# Altium footprint library ZYF_Connector.PcbLib: 43 footprints (part 1 of 3)
Each footprint in its own frame and in the unit in brackets; x right, y up, seen from the top. Pads: shape width x height; smd on the part's side, far side on the other; paste and mask are expansions set on the pad; w line width, h text height; cw(c..) or ccw(c..) is an arc to the next point about the centre after c.
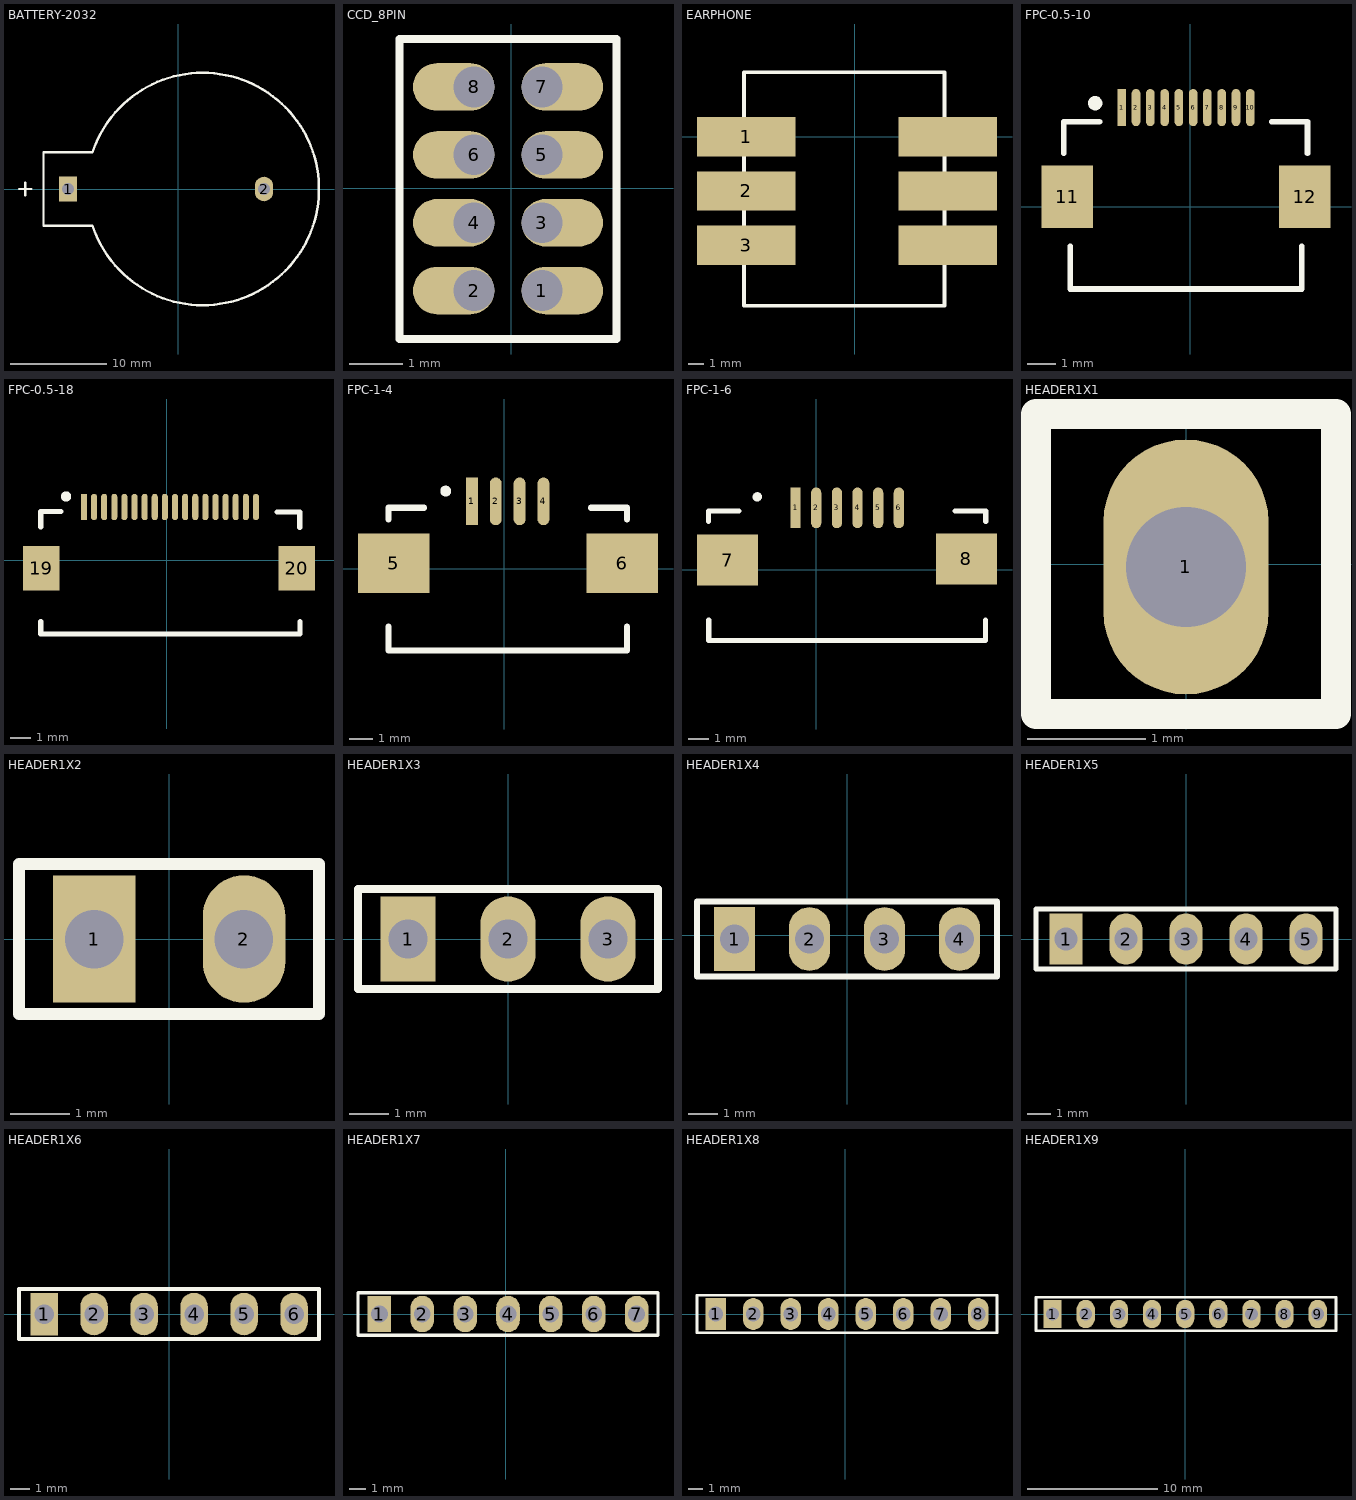
[diagram p0: the footprints below, top view; thin cyan lines are the x and y axes]

## BATTERY-2032 [mil]
pads (2):
  rect 75x100 hole 50: 1(-450,0)
  oval 75x100 hole 50: 2(350,0)
Top Overlay:
  lines w10: -650,0 -600,0 ; -625,-25 -625,25 ; -550,-150 -350,-150 ccw(c100,0) -350,150 -550,150 -550,-150
3D body: height 334.65, standoff -157.48, extent -483.5,-435.07 481.07,431.08

## CCD_8PIN [mil]
pads (8):
  oval 60x35 hole 30 copper offset 15,0: 1(22.45,-75.4) 3(22.45,-25.4) 5(22.45,24.6) 7(22.45,74.6)
  oval 60x35 hole 30 copper offset -15,0: 2(-27.55,-75.4) 4(-27.55,-25.4) 6(-27.55,24.6) 8(-27.55,74.6)
Top Overlay:
  lines w6.06: -82.55,-111.05 60.86,-111.05 77.45,-111.05 77.45,-48.71 77.45,49.61 77.45,109.95 -53.14,109.95 -82.55,109.95 -82.55,-111.05

## EARPHONE [mil]
pads (6):
  rect 250x100 smd: 1(-276,0) 2(-276,-138) 3(-276,-276) ""(237,-276) ""(237,-138) ""(237,0)
Top Overlay:
  lines w10: -281,-429 -281,164 229,164 229,-430 -280,-430 -281,-429
3D body: height 597.09, standoff -187.95, extent -376.27,-847.35 340.27,404.39

## FPC-0.5-10 [mm]
pads (12):
  rect 0.3x1.3 smd: 1(-2.404,3.479)
  oval 0.3x1.3 smd: 2(-1.904,3.479) 3(-1.404,3.479) 4(-0.904,3.479) 5(-0.404,3.479) 6(0.096,3.479) 7(0.596,3.479) 8(1.096,3.479) 9(1.596,3.479) 10(2.096,3.479)
  rect 1.8x2.2 smd: 11(-4.304,0.356) 12(3.996,0.356)
Top Overlay:
  circle w0.25: c-3.332,3.632 r0.125
  lines w0.2: -4.432,1.882 -4.432,2.982 -3.182,2.982 ; -4.204,-1.372 -4.204,-2.872 3.896,-2.872 3.896,-1.372 ; 2.849,2.982 4.099,2.982 4.099,1.882
3D body: height 2.2, standoff -0.05, extent -4.704,-3.025 4.396,3.474

## FPC-0.5-18 [mm]
pads (20):
  rect 0.3x1.3 smd: 1(-4.09,2.623)
  oval 0.3x1.3 smd: 2(-3.59,2.623) 3(-3.09,2.623) 4(-2.59,2.623) 5(-2.09,2.623) 6(-1.59,2.623) 7(-1.09,2.623) 8(-0.59,2.623) 9(-0.09,2.623) 10(0.41,2.623) 11(0.91,2.623) 12(1.41,2.623) 13(1.91,2.623) 14(2.41,2.623) 15(2.91,2.623) 16(3.41,2.623) 17(3.91,2.623) 18(4.41,2.623)
  rect 1.8x2.2 smd: 19(-6.199,-0.414) 20(6.426,-0.406)
Top Overlay:
  circle w0.254: c-4.974,3.144 r0.125
  lines w0.254: -6.224,1.644 -6.224,2.394 -5.224,2.394 ; -6.223,-3.034 -6.223,-3.659 6.579,-3.659 6.579,-3.034 ; 5.451,2.369 6.576,2.369 6.576,1.619
3D body: height 2.2, standoff -0.05, extent -6.374,-3.837 6.726,2.662

## FPC-1-4 [mm]
pads (6):
  rect 0.5x2 smd: 1(-1.365,2.825)
  oval 0.5x2 smd: 2(-0.365,2.825) 3(0.635,2.825) 4(1.635,2.825)
  rect 3x2.5 smd: 5(-4.64,0.227) 6(4.936,0.227)
Top Overlay:
  circle w0.254: c-2.465,3.257 r0.1
  lines w0.254: -4.865,-2.425 -4.865,-3.425 5.135,-3.425 5.135,-2.425 ; -4.865,2.057 -4.865,2.557 -3.365,2.557 ; 3.635,2.557 5.135,2.557 5.135,2.057
3D body: height 2.66, standoff 0.08, extent -5.825,-3.465 6.095,3.085

## FPC-1-6 [mm]
pads (8):
  rect 0.5x2 smd: 1(-1.016,3.048)
  oval 0.5x2 smd: 2(0,3.048) 3(1.016,3.048) 4(2.032,3.048) 5(3.048,3.048) 6(4.064,3.048)
  rect 3x2.5 smd: 7(-4.361,0.481) 8(7.391,0.533)
Top Overlay:
  circle w0.254: c-2.897,3.588 r0.1
  lines w0.254: -5.297,2.388 -5.297,2.888 -3.797,2.888 ; -5.283,-2.476 -5.283,-3.476 8.331,-3.476 8.331,-2.476 ; 6.835,2.888 8.335,2.888 8.335,2.388
3D body: height 2.53, standoff -0.05, extent -5.441,-3.324 8.489,3.226

## HEADER1X1 [mil]
pads (1):
  oval 55x85 hole 40: 1(0,-0.99)
Top Overlay:
  lines w10: -50,-50 50,-50 50,50 -50,50 -50,-50
3D body: height 336.22, standoff -118.11, extent -50,-49.01 50,49.02

## HEADER1X2 [mil]
pads (2):
  rect 55x85 hole 39: 1(-50,0)
  oval 55x85 hole 39: 2(50,0)
Top Overlay:
  lines w7.87: -100,-50 -100,50 100,50 100,-50 -100,-50
3D body: height 351.79, standoff -80.49, extent -100,-50 100,50

## HEADER1X3 [mil]
pads (3):
  rect 55x85 hole 39: 1(-100,0)
  oval 55x85 hole 39: 2(0,0) 3(100,0)
Top Overlay:
  lines w7.87: -150,-50 -150,50 150,50 150,-50 -150,-50
3D body: height 322.83, standoff -118.11, extent -145,-48.36 155,50

## HEADER1X4 [mil]
pads (4):
  rect 55x85 hole 39: 1(-150,-5)
  oval 55x85 hole 39: 2(-50,-5) 3(50,-5) 4(150,-5)
Top Overlay:
  lines w7.87: -200,-55 200,-55 200,45 -200,45 -200,-55
3D body: height 322.83, standoff -118.11, extent -200,-53.36 200,45

## HEADER1X5 [mil]
pads (5):
  rect 55x85 hole 39: 1(-200,0)
  oval 55x85 hole 39: 2(-100,0) 3(0,0) 4(100,0) 5(200,0)
Top Overlay:
  lines w7.87: -250,-50 250,-50 250,50 -250,50 -250,-50
3D body: height 322.83, standoff -118.11, extent -246.05,-49.04 253.94,49.32

## HEADER1X6 [mil]
pads (6):
  rect 55x85 hole 39: 1(-250,0)
  oval 55x85 hole 39: 2(-150,0) 3(-50,0) 4(50,0) 5(150,0) 6(250,0)
Top Overlay:
  lines w7.87: -300,-50 -300,50 300,50 300,-50 -300,-50
3D body: height 322.83, standoff -118.11, extent -295,-50 305,48.36

## HEADER1X7 [mil]
pads (7):
  rect 55x85 hole 39: 1(-295,0)
  oval 55x85 hole 39: 2(-195,0) 3(-95,0) 4(5,0) 5(105,0) 6(205,0) 7(305,0)
Top Overlay:
  lines w7.87: -345,-50 355,-50 355,50 -345,50 -345,-50
3D body: height 322.83, standoff -118.11, extent -45,-53.36 355,45
3D body: height 322.83, standoff -118.11, extent -345,-48.36 -45,50

## HEADER1X8 [mil]
pads (8):
  rect 55x85 hole 39: 1(-345,0)
  oval 55x85 hole 39: 2(-245,0) 3(-145,0) 4(-45,0) 5(55,0) 6(155,0) 7(255,0) 8(355,0)
Top Overlay:
  lines w7.87: -395,-50 -395,50 405,50 405,-50 -395,-50
3D body: height 322.83, standoff -118.11, extent -390,-53.36 10,45
3D body: height 322.83, standoff -118.11, extent 10,-53.36 410,45

## HEADER1X9 [mil]
pads (9):
  rect 55x85 hole 39: 1(-400,0)
  oval 55x85 hole 39: 2(-300,0) 3(-200,0) 4(-100,0) 5(0,0) 6(100,0) 7(200,0) 8(300,0) 9(400,0)
Top Overlay:
  lines w7.87: -450,-50 -450,50 -375,50 455,50 455,-50 -450,-50
3D body: height 322.83, standoff -118.11, extent -45,-48.36 455,50
3D body: height 322.83, standoff -118.11, extent -445,-48.36 -45,50